# Altium footprint library DC3-2.54mm简牛贴片插座.PcbLib: 24 footprints (part 1 of 2)
Each footprint in its own frame and in the unit in brackets; x right, y up, seen from the top. Pads: shape width x height; smd on the part's side, far side on the other; paste and mask are expansions set on the pad; w line width, h text height; cw(c..) or ccw(c..) is an arc to the next point about the centre after c.
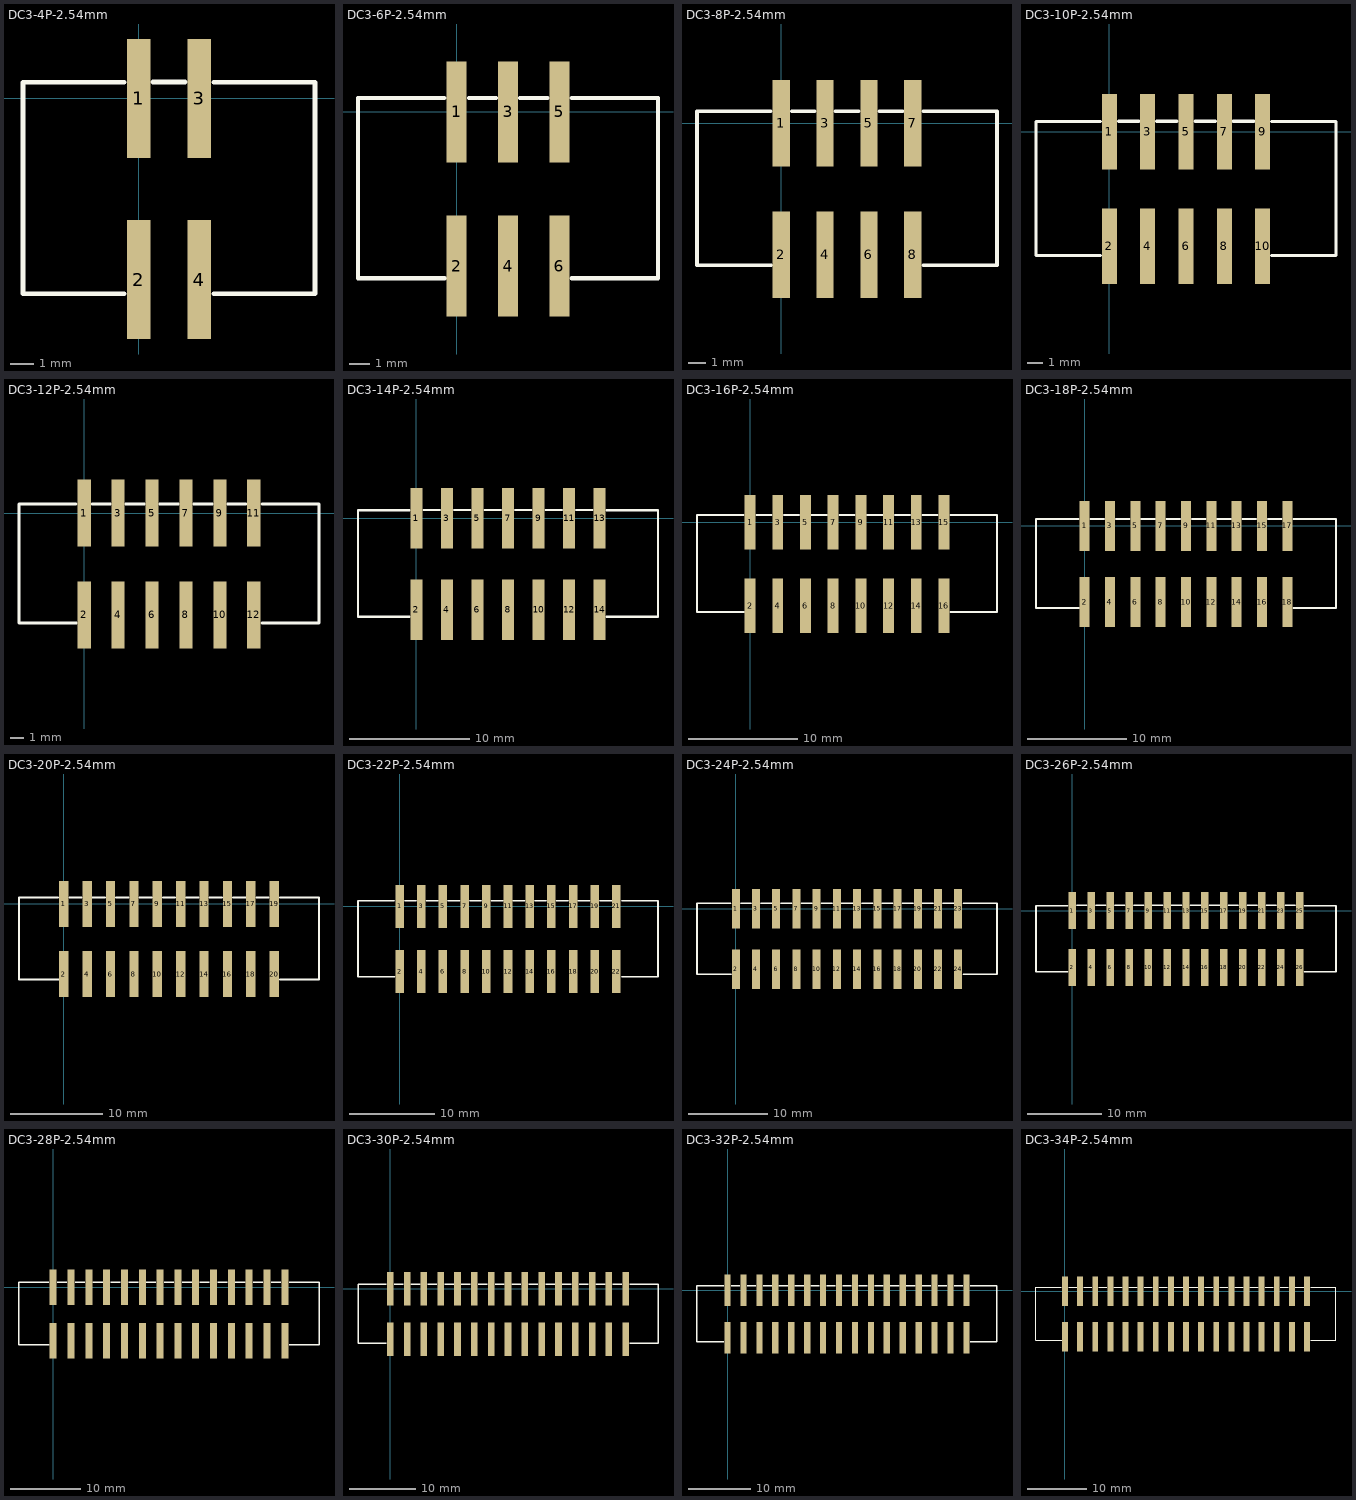
[diagram p0: the footprints below, top view; thin cyan lines are the x and y axes]

## DC3-4P-2.54mm [mm] "简牛贴片 2.54间距 （蒜米工坊）"
height 10.2
pads (4):
  rect 1x5 smd: 1(0,0) 2(0,-7.62) 3(2.54,0) 4(2.54,-7.62)
Top Overlay:
  lines w0.203: -0.61,-8.22 -4.87,-8.22 -4.87,0.68 -0.61,0.68 ; 0.584,0.686 1.956,0.686 ; 3.15,-8.22 7.41,-8.22 7.41,0.68 3.15,0.68
3D body "简牛贴片.STEP": height 10, standoff 0, extent -4.87,-9.586 7.41,1.854

## DC3-6P-2.54mm [mm] "简牛贴片 2.54间距 （蒜米工坊）"
height 10.2
pads (6):
  rect 1x5 smd: 1(0,0) 2(0,-7.62) 3(2.54,0) 4(2.54,-7.62) 5(5.08,0) 6(5.08,-7.62)
Top Overlay:
  lines w0.203: -0.61,0.68 -4.87,0.68 -4.87,-8.22 -0.584,-8.22 ; 0.61,0.686 1.956,0.686 ; 3.124,0.686 4.496,0.686 ; 5.69,-8.22 9.95,-8.22 9.95,0.68 5.69,0.68
3D body "简牛贴片6.STEP": height 10, standoff 0, extent -4.845,-9.53 9.975,1.91

## DC3-8P-2.54mm [mm] "简牛贴片 2.54间距 （蒜米工坊）"
height 10.2
pads (8):
  rect 1x5 smd: 1(0,0) 2(0,-7.62) 3(2.54,0) 4(2.54,-7.62) 5(5.08,0) 6(5.08,-7.62) 7(7.62,0) 8(7.62,-7.62)
Top Overlay:
  lines w0.203: -0.61,0.68 -4.87,0.68 -4.87,-8.22 -0.584,-8.22 ; 0.61,0.686 1.956,0.686 ; 3.124,0.686 4.496,0.686 ; 5.664,0.686 7.036,0.686 ; 8.23,-8.22 12.49,-8.22 12.49,0.68 8.23,0.68
3D body "简牛贴片8.STEP": height 10, standoff 0, extent -4.87,-9.479 12.49,1.961

## DC3-10P-2.54mm [mm] "简牛贴片 2.54间距 （蒜米工坊）"
height 10.2
pads (10):
  rect 1x5 smd: 1(0,0) 2(0,-7.62) 3(2.54,0) 4(2.54,-7.62) 5(5.08,0) 6(5.08,-7.62) 7(7.62,0) 8(7.62,-7.62) 9(10.16,0) 10(10.16,-7.62)
Top Overlay:
  lines w0.203: -0.61,0.68 -4.87,0.68 -4.87,-8.22 -0.584,-8.22 ; 0.61,0.686 1.956,0.686 ; 3.124,0.686 4.496,0.686 ; 5.664,0.686 7.036,0.686 ; 8.204,0.686 9.576,0.686 ; 10.77,-8.22 15.03,-8.22 15.03,0.68 10.77,0.68
3D body "简牛贴片10.STEP": height 10, standoff 0, extent -4.845,-9.504 15.055,1.936

## DC3-12P-2.54mm [mm] "简牛贴片 2.54间距 （蒜米工坊）"
height 10.2
pads (12):
  rect 1x5 smd: 1(0,0) 2(0,-7.62) 3(2.54,0) 4(2.54,-7.62) 5(5.08,0) 6(5.08,-7.62) 7(7.62,0) 8(7.62,-7.62) 9(10.16,0) 10(10.16,-7.62) 11(12.7,0) 12(12.7,-7.62)
Top Overlay:
  lines w0.203: -0.61,0.68 -4.87,0.68 -4.87,-8.22 -0.584,-8.22 ; 0.61,0.686 1.956,0.686 ; 3.124,0.686 4.496,0.686 ; 5.664,0.686 7.036,0.686 ; 8.204,0.686 9.576,0.686 ; 10.744,0.686 12.116,0.686 ; 13.31,-8.22 17.57,-8.22 17.57,0.68 13.31,0.68
3D body "简牛贴片12.STEP": height 10, standoff 0, extent -4.844,-9.53 17.595,1.91

## DC3-14P-2.54mm [mm] "简牛贴片 2.54间距 （蒜米工坊）"
height 10.2
pads (14):
  rect 1x5 smd: 1(0,0) 2(0,-7.62) 3(2.54,0) 4(2.54,-7.62) 5(5.08,0) 6(5.08,-7.62) 7(7.62,0) 8(7.62,-7.62) 9(10.16,0) 10(10.16,-7.62) 11(12.7,0) 12(12.7,-7.62) 13(15.24,0) 14(15.24,-7.62)
Top Overlay:
  lines w0.203: -0.61,0.68 -4.87,0.68 -4.87,-8.22 -0.584,-8.22 ; 0.61,0.686 1.956,0.686 ; 3.124,0.686 4.496,0.686 ; 5.664,0.686 7.036,0.686 ; 8.204,0.686 9.576,0.686 ; 10.744,0.686 12.116,0.686 ; 13.284,0.686 14.656,0.686 ; 15.85,-8.22 20.11,-8.22 20.11,0.68 15.85,0.68
3D body "简牛贴片14.STEP": height 10, standoff 0, extent -4.819,-9.504 20.161,1.936

## DC3-16P-2.54mm [mm] "简牛贴片 2.54间距 （蒜米工坊）"
height 10.2
pads (16):
  rect 1x5 smd: 1(0,0) 2(0,-7.62) 3(2.54,0) 4(2.54,-7.62) 5(5.08,0) 6(5.08,-7.62) 7(7.62,0) 8(7.62,-7.62) 9(10.16,0) 10(10.16,-7.62) 11(12.7,0) 12(12.7,-7.62) 13(15.24,0) 14(15.24,-7.62) 15(17.78,0) 16(17.78,-7.62)
Top Overlay:
  lines w0.203: -0.61,0.68 -4.87,0.68 -4.87,-8.22 -0.584,-8.22 ; 0.61,0.686 1.956,0.686 ; 3.124,0.686 4.496,0.686 ; 5.664,0.686 7.036,0.686 ; 8.204,0.686 9.576,0.686 ; 10.744,0.686 12.116,0.686 ; 13.284,0.686 14.656,0.686 ; 15.824,0.686 17.196,0.686 ; 18.39,-8.22 22.65,-8.22 22.65,0.68 18.39,0.68
3D body "简牛贴片16.STEP": height 10, standoff 0, extent -4.87,-9.479 22.65,1.961

## DC3-18P-2.54mm [mm] "简牛贴片 2.54间距 （蒜米工坊）"
height 10.2
pads (18):
  rect 1x5 smd: 1(0,0) 2(0,-7.62) 3(2.54,0) 4(2.54,-7.62) 5(5.08,0) 6(5.08,-7.62) 7(7.62,0) 8(7.62,-7.62) 9(10.16,0) 10(10.16,-7.62) 11(12.7,0) 12(12.7,-7.62) 13(15.24,0) 14(15.24,-7.62) 15(17.78,0) 16(17.78,-7.62) 17(20.32,0) 18(20.32,-7.62)
Top Overlay:
  lines w0.203: -0.61,0.68 -4.87,0.68 -4.87,-8.22 -0.584,-8.22 ; 0.61,0.686 1.956,0.686 ; 3.124,0.686 4.496,0.686 ; 5.664,0.686 7.036,0.686 ; 8.204,0.686 9.576,0.686 ; 10.744,0.686 12.116,0.686 ; 13.284,0.686 14.656,0.686 ; 15.824,0.686 17.196,0.686 ; 18.364,0.686 19.736,0.686 ; 20.93,-8.22 25.19,-8.22 25.19,0.68 20.93,0.68
3D body "简牛贴片18.STEP": height 10, standoff 0, extent -4.87,-9.479 25.19,1.961

## DC3-20P-2.54mm [mm] "简牛贴片 2.54间距 （蒜米工坊）"
height 10.2
pads (20):
  rect 1x5 smd: 1(0,0) 2(0,-7.62) 3(2.54,0) 4(2.54,-7.62) 5(5.08,0) 6(5.08,-7.62) 7(7.62,0) 8(7.62,-7.62) 9(10.16,0) 10(10.16,-7.62) 11(12.7,0) 12(12.7,-7.62) 13(15.24,0) 14(15.24,-7.62) 15(17.78,0) 16(17.78,-7.62) 17(20.32,0) 18(20.32,-7.62) 19(22.86,0) 20(22.86,-7.62)
Top Overlay:
  lines w0.203: -0.61,0.68 -4.87,0.68 -4.87,-8.22 -0.584,-8.22 ; 0.61,0.686 1.956,0.686 ; 3.124,0.686 4.496,0.686 ; 5.664,0.686 7.036,0.686 ; 8.204,0.686 9.576,0.686 ; 10.744,0.686 12.116,0.686 ; 13.284,0.686 14.656,0.686 ; 15.824,0.686 17.196,0.686 ; 18.364,0.686 19.736,0.686 ; 20.904,0.686 22.276,0.686 ; 23.47,-8.22 27.73,-8.22 27.73,0.68 23.47,0.68
3D body "简牛贴片20.STEP": height 10, standoff 0, extent -4.844,-9.53 27.755,1.91

## DC3-22P-2.54mm [mm] "简牛贴片 2.54间距 （蒜米工坊）"
height 10.2
pads (22):
  rect 1x5 smd: 1(0,0) 2(0,-7.62) 3(2.54,0) 4(2.54,-7.62) 5(5.08,0) 6(5.08,-7.62) 7(7.62,0) 8(7.62,-7.62) 9(10.16,0) 10(10.16,-7.62) 11(12.7,0) 12(12.7,-7.62) 13(15.24,0) 14(15.24,-7.62) 15(17.78,0) 16(17.78,-7.62) 17(20.32,0) 18(20.32,-7.62) 19(22.86,0) 20(22.86,-7.62) 21(25.4,0) 22(25.4,-7.62)
Top Overlay:
  lines w0.203: -0.61,0.68 -4.87,0.68 -4.87,-8.22 -0.584,-8.22 ; 0.61,0.686 1.956,0.686 ; 3.124,0.686 4.496,0.686 ; 5.664,0.686 7.036,0.686 ; 8.204,0.686 9.576,0.686 ; 10.744,0.686 12.116,0.686 ; 13.284,0.686 14.656,0.686 ; 15.824,0.686 17.196,0.686 ; 18.364,0.686 19.736,0.686 ; 20.904,0.686 22.276,0.686 ; 23.444,0.686 24.816,0.686 ; 26.01,-8.22 30.27,-8.22 30.27,0.68 26.01,0.68
3D body "简牛贴片20.STEP": height 10, standoff 0, extent -4.845,-9.53 30.295,1.91

## DC3-24P-2.54mm [mm] "简牛贴片 2.54间距 （蒜米工坊）"
height 10.2
pads (24):
  rect 1x5 smd: 1(0,0) 2(0,-7.62) 3(2.54,0) 4(2.54,-7.62) 5(5.08,0) 6(5.08,-7.62) 7(7.62,0) 8(7.62,-7.62) 9(10.16,0) 10(10.16,-7.62) 11(12.7,0) 12(12.7,-7.62) 13(15.24,0) 14(15.24,-7.62) 15(17.78,0) 16(17.78,-7.62) 17(20.32,0) 18(20.32,-7.62) 19(22.86,0) 20(22.86,-7.62) 21(25.4,0) 22(25.4,-7.62) 23(27.94,0) 24(27.94,-7.62)
Top Overlay:
  lines w0.203: -0.61,0.68 -4.87,0.68 -4.87,-8.22 -0.584,-8.22 ; 0.61,0.686 1.956,0.686 ; 3.124,0.686 4.496,0.686 ; 5.664,0.686 7.036,0.686 ; 8.204,0.686 9.576,0.686 ; 10.744,0.686 12.116,0.686 ; 13.284,0.686 14.656,0.686 ; 15.824,0.686 17.196,0.686 ; 18.364,0.686 19.736,0.686 ; 20.904,0.686 22.276,0.686 ; 23.444,0.686 24.816,0.686 ; 25.984,0.686 27.356,0.686 ; 28.55,-8.22 32.81,-8.22 32.81,0.68 28.55,0.68
3D body "简牛贴片24.STEP": height 10, standoff 0, extent -4.895,-9.504 32.785,1.936

## DC3-26P-2.54mm [mm] "简牛贴片 2.54间距 （蒜米工坊）"
height 10.2
pads (26):
  rect 1x5 smd: 1(0,0) 2(0,-7.62) 3(2.54,0) 4(2.54,-7.62) 5(5.08,0) 6(5.08,-7.62) 7(7.62,0) 8(7.62,-7.62) 9(10.16,0) 10(10.16,-7.62) 11(12.7,0) 12(12.7,-7.62) 13(15.24,0) 14(15.24,-7.62) 15(17.78,0) 16(17.78,-7.62) 17(20.32,0) 18(20.32,-7.62) 19(22.86,0) 20(22.86,-7.62) 21(25.4,0) 22(25.4,-7.62) 23(27.94,0) 24(27.94,-7.62) 25(30.48,0) 26(30.48,-7.62)
Top Overlay:
  lines w0.203: -0.61,0.68 -4.87,0.68 -4.87,-8.22 -0.584,-8.22 ; 0.61,0.686 1.956,0.686 ; 3.124,0.686 4.496,0.686 ; 5.664,0.686 7.036,0.686 ; 8.204,0.686 9.576,0.686 ; 10.744,0.686 12.116,0.686 ; 13.284,0.686 14.656,0.686 ; 15.824,0.686 17.196,0.686 ; 18.364,0.686 19.736,0.686 ; 20.904,0.686 22.276,0.686 ; 23.444,0.686 24.816,0.686 ; 25.984,0.686 27.356,0.686 ; 28.524,0.686 29.896,0.686 ; 31.09,-8.22 35.35,-8.22 35.35,0.68 31.09,0.68
3D body "简牛贴片26.STEP": height 10, standoff 0, extent -4.87,-9.53 35.35,1.91

## DC3-28P-2.54mm [mm] "简牛贴片 2.54间距 （蒜米工坊）"
height 10.2
pads (28):
  rect 1x5 smd: 1(0,0) 2(0,-7.62) 3(2.54,0) 4(2.54,-7.62) 5(5.08,0) 6(5.08,-7.62) 7(7.62,0) 8(7.62,-7.62) 9(10.16,0) 10(10.16,-7.62) 11(12.7,0) 12(12.7,-7.62) 13(15.24,0) 14(15.24,-7.62) 15(17.78,0) 16(17.78,-7.62) 17(20.32,0) 18(20.32,-7.62) 19(22.86,0) 20(22.86,-7.62) 21(25.4,0) 22(25.4,-7.62) 23(27.94,0) 24(27.94,-7.62) 25(30.48,0) 26(30.48,-7.62) 27(33.02,0) 28(33.02,-7.62)
Top Overlay:
  lines w0.203: -0.61,0.68 -4.87,0.68 -4.87,-8.22 -0.584,-8.22 ; 0.61,0.686 1.956,0.686 ; 3.124,0.686 4.496,0.686 ; 5.664,0.686 7.036,0.686 ; 8.204,0.686 9.576,0.686 ; 10.744,0.686 12.116,0.686 ; 13.284,0.686 14.656,0.686 ; 15.824,0.686 17.196,0.686 ; 18.364,0.686 19.736,0.686 ; 20.904,0.686 22.276,0.686 ; 23.444,0.686 24.816,0.686 ; 25.984,0.686 27.356,0.686 ; 28.524,0.686 29.896,0.686 ; 31.064,0.686 32.436,0.686 ; 33.63,-8.22 37.89,-8.22 37.89,0.68 33.63,0.68
3D body "简牛贴片28.STEP": height 10, standoff 0, extent -4.87,-9.479 37.89,1.961

## DC3-30P-2.54mm [mm] "简牛贴片 2.54间距 （蒜米工坊）"
height 10.2
pads (30):
  rect 1x5 smd: 1(0,0) 2(0,-7.62) 3(2.54,0) 4(2.54,-7.62) 5(5.08,0) 6(5.08,-7.62) 7(7.62,0) 8(7.62,-7.62) 9(10.16,0) 10(10.16,-7.62) 11(12.7,0) 12(12.7,-7.62) 13(15.24,0) 14(15.24,-7.62) 15(17.78,0) 16(17.78,-7.62) 17(20.32,0) 18(20.32,-7.62) 19(22.86,0) 20(22.86,-7.62) 21(25.4,0) 22(25.4,-7.62) 23(27.94,0) 24(27.94,-7.62) 25(30.48,0) 26(30.48,-7.62) 27(33.02,0) 28(33.02,-7.62) 29(35.56,0) 30(35.56,-7.62)
Top Overlay:
  lines w0.203: -0.61,0.68 -4.87,0.68 -4.87,-8.22 -0.584,-8.22 ; 0.61,0.686 1.956,0.686 ; 3.124,0.686 4.496,0.686 ; 5.664,0.686 7.036,0.686 ; 8.204,0.686 9.576,0.686 ; 10.744,0.686 12.116,0.686 ; 13.284,0.686 14.656,0.686 ; 15.824,0.686 17.196,0.686 ; 18.364,0.686 19.736,0.686 ; 20.904,0.686 22.276,0.686 ; 23.444,0.686 24.816,0.686 ; 25.984,0.686 27.356,0.686 ; 28.524,0.686 29.896,0.686 ; 31.064,0.686 32.436,0.686 ; 33.604,0.686 34.976,0.686 ; 36.17,-8.22 40.43,-8.22 40.43,0.68 36.17,0.68
3D body "简牛贴片30.STEP": height 10, standoff 0, extent -4.87,-9.504 40.43,1.936

## DC3-32P-2.54mm [mm] "简牛贴片 2.54间距 （蒜米工坊）"
height 10.2
pads (32):
  rect 1x5 smd: 1(0,0) 2(0,-7.62) 3(2.54,0) 4(2.54,-7.62) 5(5.08,0) 6(5.08,-7.62) 7(7.62,0) 8(7.62,-7.62) 9(10.16,0) 10(10.16,-7.62) 11(12.7,0) 12(12.7,-7.62) 13(15.24,0) 14(15.24,-7.62) 15(17.78,0) 16(17.78,-7.62) 17(20.32,0) 18(20.32,-7.62) 19(22.86,0) 20(22.86,-7.62) 21(25.4,0) 22(25.4,-7.62) 23(27.94,0) 24(27.94,-7.62) 25(30.48,0) 26(30.48,-7.62) 27(33.02,0) 28(33.02,-7.62) 29(35.56,0) 30(35.56,-7.62) 31(38.1,0) 32(38.1,-7.62)
Top Overlay:
  lines w0.203: -0.61,0.68 -4.87,0.68 -4.87,-8.22 -0.584,-8.22 ; 0.61,0.686 1.956,0.686 ; 3.124,0.686 4.496,0.686 ; 5.664,0.686 7.036,0.686 ; 8.204,0.686 9.576,0.686 ; 10.744,0.686 12.116,0.686 ; 13.284,0.686 14.656,0.686 ; 15.824,0.686 17.196,0.686 ; 18.364,0.686 19.736,0.686 ; 20.904,0.686 22.276,0.686 ; 23.444,0.686 24.816,0.686 ; 25.984,0.686 27.356,0.686 ; 28.524,0.686 29.896,0.686 ; 31.064,0.686 32.436,0.686 ; 33.604,0.686 34.976,0.686 ; 36.144,0.686 37.516,0.686 ; 38.71,-8.22 42.97,-8.22 42.97,0.68 38.71,0.68
3D body "简牛贴片32.STEP": height 10, standoff 0, extent -4.844,-9.53 42.995,1.91

## DC3-34P-2.54mm [mm] "简牛贴片 2.54间距 （蒜米工坊）"
height 10.2
pads (34):
  rect 1x5 smd: 1(0,0) 2(0,-7.62) 3(2.54,0) 4(2.54,-7.62) 5(5.08,0) 6(5.08,-7.62) 7(7.62,0) 8(7.62,-7.62) 9(10.16,0) 10(10.16,-7.62) 11(12.7,0) 12(12.7,-7.62) 13(15.24,0) 14(15.24,-7.62) 15(17.78,0) 16(17.78,-7.62) 17(20.32,0) 18(20.32,-7.62) 19(22.86,0) 20(22.86,-7.62) 21(25.4,0) 22(25.4,-7.62) 23(27.94,0) 24(27.94,-7.62) 25(30.48,0) 26(30.48,-7.62) 27(33.02,0) 28(33.02,-7.62) 29(35.56,0) 30(35.56,-7.62) 31(38.1,0) 32(38.1,-7.62) 33(40.64,0) 34(40.64,-7.62)
Top Overlay:
  lines w0.203: -0.61,0.68 -4.87,0.68 -4.87,-8.22 -0.584,-8.22 ; 0.61,0.686 1.956,0.686 ; 3.124,0.686 4.496,0.686 ; 5.664,0.686 7.036,0.686 ; 8.204,0.686 9.576,0.686 ; 10.744,0.686 12.116,0.686 ; 13.284,0.686 14.656,0.686 ; 15.824,0.686 17.196,0.686 ; 18.364,0.686 19.736,0.686 ; 20.904,0.686 22.276,0.686 ; 23.444,0.686 24.816,0.686 ; 25.984,0.686 27.356,0.686 ; 28.524,0.686 29.896,0.686 ; 31.064,0.686 32.436,0.686 ; 33.604,0.686 34.976,0.686 ; 36.144,0.686 37.516,0.686 ; 38.684,0.686 40.056,0.686 ; 41.25,-8.22 45.51,-8.22 45.51,0.68 41.25,0.68
3D body "简牛贴片34.STEP": height 10, standoff 0, extent -4.845,-9.53 45.535,1.91